# Altium schematic symbol library DRV8842-TSSOP28.SchLib: 1 symbol
Pins are listed as number, name and electrical type; pins without a type are passive.

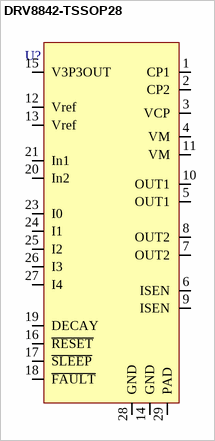
[diagram p0: symbol DRV8842-TSSOP28]

## DRV8842-TSSOP28
designator U?  (value not drawn)
pins: 1 CP1, 2 CP2, 3 VCP, 4 VM, 5 OUT1, 6 ISEN, 7 OUT2, 8 OUT2, 9 ISEN, 10 OUT1, 11 VM, 12 Vref, 13 Vref, 14 GND, 15 V3P3OUT, 16 ~{RESET}, 17 ~{SLEEP}, 18 ~{FAULT}, 19 DECAY, 20 In2, 21 In1, 23 I0, 24 I1, 25 I2, 26 I3, 27 I4, 28 GND, 29 PAD